# Altium footprint library QSH02001FDDPAKTR.PcbLib: 1 footprints
Each footprint in its own frame and in the unit in brackets; x right, y up, seen from the top. Pads: shape width x height; smd on the part's side, far side on the other; paste and mask are expansions set on the pad; w line width, h text height; cw(c..) or ccw(c..) is an arc to the next point about the centre after c.
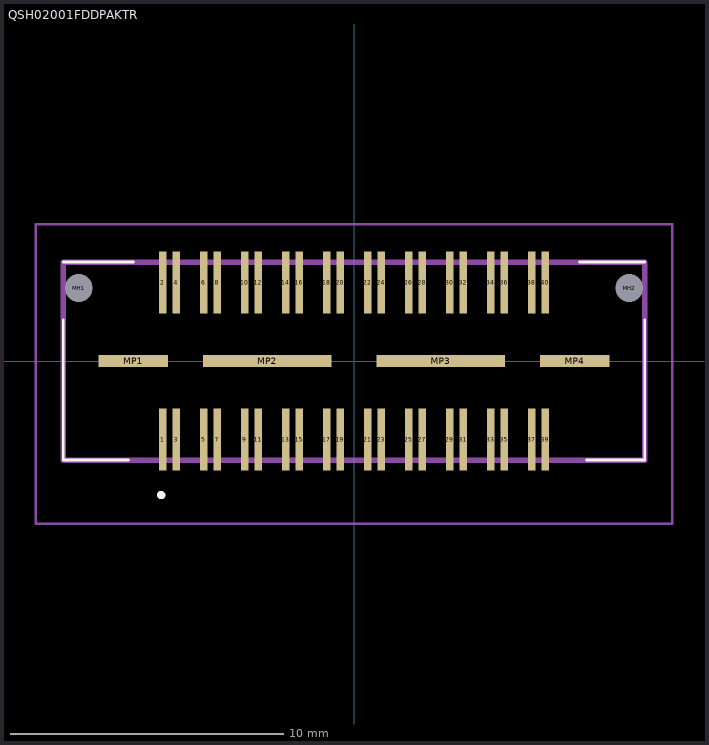
[diagram p0: the footprint, top view; thin cyan lines are the x and y axes]

## QSH02001FDDPAKTR [mm]
pads (46):
  rect 0.28x2.27 smd: 1(-7,-2.87) 2(-7,2.87) 3(-6.5,-2.87) 4(-6.5,2.87) 5(-5.5,-2.87) 6(-5.5,2.87) 7(-5,-2.87) 8(-5,2.87) 9(-4,-2.87) 10(-4,2.87) 11(-3.5,-2.87) 12(-3.5,2.87) 13(-2.5,-2.87) 14(-2.5,2.87) 15(-2,-2.87) 16(-2,2.87) 17(-1,-2.87) 18(-1,2.87) 19(-0.5,-2.87) 20(-0.5,2.87) 21(0.5,-2.87) 22(0.5,2.87) 23(1,-2.87) 24(1,2.87) 25(2,-2.87) 26(2,2.87) 27(2.5,-2.87) 28(2.5,2.87) 29(3.5,-2.87) 30(3.5,2.87) 31(4,-2.87) 32(4,2.87) 33(5,-2.87) 34(5,2.87) 35(5.5,-2.87) 36(5.5,2.87) 37(6.5,-2.87) 38(6.5,2.87) 39(7,-2.87) 40(7,2.87)
  round 0.51 hole 1.02 unplated: MH1(-10.066,2.67) MH2(10.066,2.67)
  rect 2.54x0.43 smd: MP1(-8.065,0) MP4(8.065,0)
  rect 4.7x0.43 smd: MP2(-3.175,0) MP3(3.175,0)
Top Overlay:
  lines w0.1: -10.636,-3.62 -10.636,1.5 ; -10.636,-3.62 -10.636,-3.62 ; -10.636,-3.62 -10.636,1.5 ; -10.636,-3.62 -8.25,-3.62 ; -10.636,-3.62 -8.25,-3.62 ; -10.636,-3.62 -10.636,-3.62 ; -10.636,1.5 -10.636,1.5 ; -10.636,3.62 -8.065,3.62 ; -10.636,3.62 -8.065,3.62 ; -10.636,3.62 -10.636,3.62 ; -8.25,-3.62 -8.25,-3.62 ; -8.065,3.62 -8.065,3.62 ; 8.25,3.62 10.636,3.62 ; 8.25,3.62 10.636,3.62 ; 8.25,3.62 8.25,3.62 ; 8.5,-3.62 10.636,-3.62 ; 8.5,-3.62 10.636,-3.62 ; 8.5,-3.62 8.5,-3.62 ; 10.636,-3.62 10.636,-3.62 ; 10.636,-3.62 10.636,1.5 ; 10.636,-3.62 10.636,-3.62 ; 10.636,-3.62 10.636,1.5 ; 10.636,1.5 10.636,1.5 ; 10.636,3.62 10.636,3.62
  lines w0.2: -7.1,-4.9 -7.1,-4.9 ; -7.1,-4.9 ccw(c-7.05,-4.9) -7,-4.9 ; -7.1,-4.9 cw(c-7.05,-4.9) -7,-4.9 ; -7.1,-4.9 -7.1,-4.9 ; -7.1,-4.9 ccw(c-7.05,-4.9) -7,-4.9 ; -7,-4.9 -7,-4.9
Mechanical 15:
  lines w0.2: -10.636,-3.62 10.636,-3.62 10.636,3.62 -10.636,3.62 -10.636,-3.62
Mechanical 20:
  lines w0.1: -11.636,-5.95 11.636,-5.95 11.636,5.005 -11.636,5.005 -11.636,-5.95